# EAGLE library part ESD8008 (library ESD8008MUT)
TVS Diode - ESD Protection Datasheet: http://www.onsemi.com/pub_link/Collateral/ESD8008-D.PDF
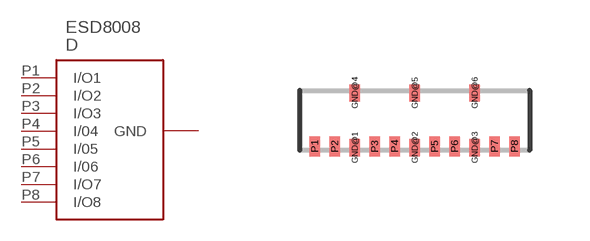
[diagram p0: symbol with the pads of UFDFN-14; footprint UFDFN-14]

Designator prefix D

## ESD8008  [UFDFN-14]
GND@1  GND
GND@2  GND
GND@3  GND
GND@4  GND
GND@5  GND
GND@6  GND
P1  I/O1
P2  I/O2
P3  I/O3
P4  I/04
P5  I/05
P6  I/06
P7  I/O7
P8  I/O8

## Footprint UFDFN-14 (pad centres in mm)
UFDFN-14
smd 0.26 x 0.43: GND@1 -1.5,-0.685; GND@2 0,-0.685; GND@3 1.5,-0.685; GND@4 -1.5,0.685; GND@5 0,0.685; GND@6 1.5,0.685
smd 0.26 x 0.5: P1 -2.5,-0.65; P2 -2,-0.65; P3 -1,-0.65; P4 -0.5,-0.65; P5 0.5,-0.65; P6 1,-0.65; P7 2,-0.65; P8 2.5,-0.65